# Altium footprint library C311983.PcbLib: 1 footprints
Each footprint in its own frame and in the unit in brackets; x right, y up, seen from the top. Pads: shape width x height; smd on the part's side, far side on the other; paste and mask are expansions set on the pad; w line width, h text height; cw(c..) or ccw(c..) is an arc to the next point about the centre after c.
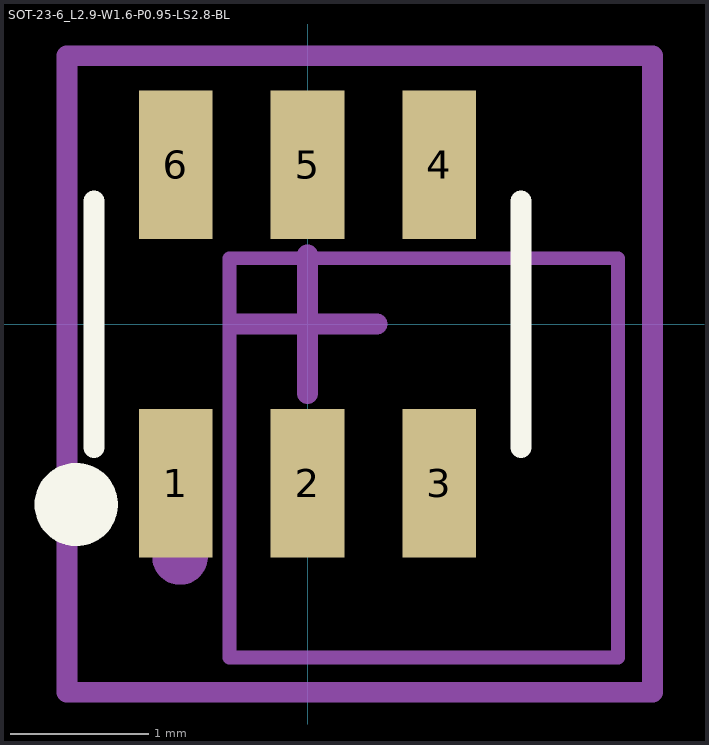
[diagram p0: the footprint, top view; thin cyan lines are the x and y axes]

## SOT-23-6_L2.9-W1.6-P0.95-LS2.8-BL [mm] "Buck Switching Regulator IC Adjustable 1 Output 3A TSOT-23-6"
pads (6):
  rect 0.532x1.072 smd: 1(-0.95,-1.149) 2(0,-1.149) 3(0.95,-1.149) 4(0.95,1.149) 5(0,1.149) 6(-0.95,1.149)
Top Overlay:
  circle w0.3: c-1.668,-1.301 r0.15
  circle w0.06: c-1.463,-1.4 r0.03
  lines w0.152: -1.539,-0.889 -1.539,0.889 ; 1.539,-0.889 1.539,0.889
Mechanical 11:
  circle w0.2: c-0.92,-1.68 r0.1
Mechanical 13:
  lines w0.1: -0.562,-2.405 -0.562,0.475 2.238,0.475 2.238,-2.405 -0.562,-2.405
Mechanical 15:
  lines w0.15: -0.5,0 0.5,0 ; 0,-0.5 0,0.5 ; -1.736,-2.655 -1.736,1.935 2.488,1.935 2.488,-2.655 -1.736,-2.655
3D body "SOT-23-6_L2.9-W1.6-P0.95-LS2.8-BL.step": height 0.03, standoff 0, extent -0.562,-2.405 2.238,0.475